# Altium footprint library goldpin.PcbLib: 6 footprints
Each footprint in its own frame and in the unit in brackets; x right, y up, seen from the top. Pads: shape width x height; smd on the part's side, far side on the other; paste and mask are expansions set on the pad; w line width, h text height; cw(c..) or ccw(c..) is an arc to the next point about the centre after c.
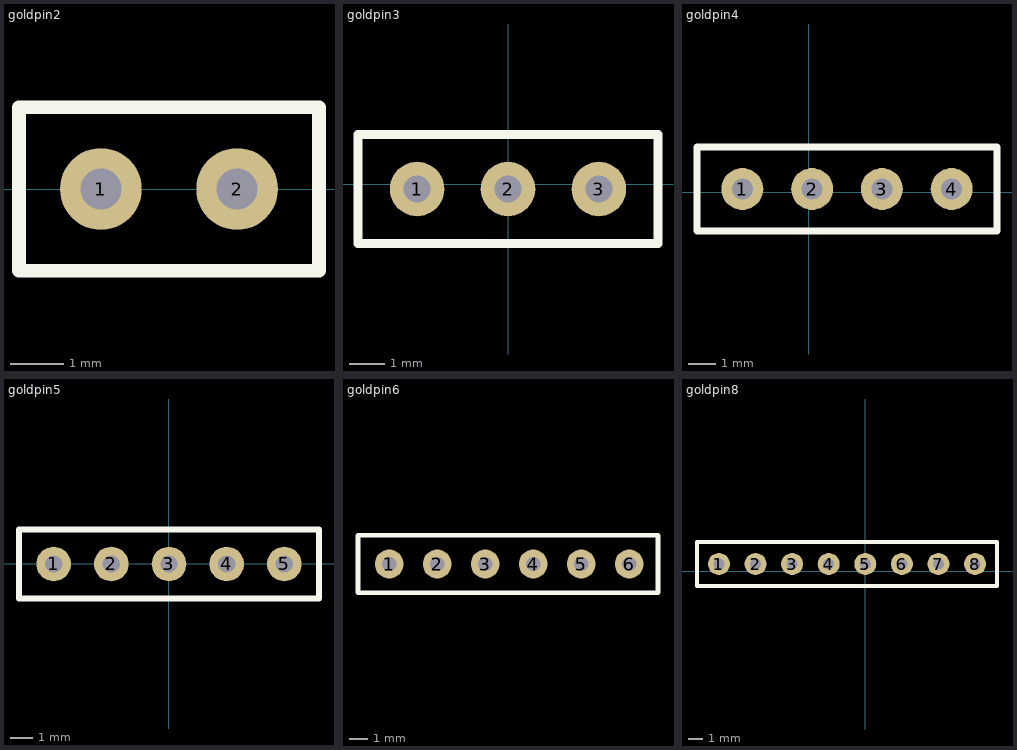
[diagram p0: the footprints below, top view; thin cyan lines are the x and y axes]

## goldpin2 [mil]
pads (2):
  round 60 hole 30: 1(-200,0) 2(-100,0)
Top Overlay:
  lines w10: -260,-60 -40,-60 -40,60 -260,60 -260,-60

## goldpin3 [mil]
pads (3):
  round 60 hole 30: 1(-100,-5) 2(0,-5) 3(100,-5)
Top Overlay:
  lines w10: -165,-65 165,-65 165,55 -165,55 -165,-65

## goldpin4 [mil]
pads (4):
  round 60 hole 30: 1(-95,5) 2(5,5) 3(105,5) 4(205,5)
Top Overlay:
  lines w10: -160,-55 -160,65 270,65 270,-55 -160,-55

## goldpin5 [mil]
pads (5):
  round 60 hole 30: 1(-200,0) 2(-100,0) 3(0,0) 4(100,0) 5(200,0)
Top Overlay:
  lines w10: -260,-60 260,-60 260,-30 260,30 260,60 -260,60 -260,-60

## goldpin6 [mil]
pads (6):
  round 60 hole 30: 1(-16000,6400) 2(-15900,6400) 3(-15800,6400) 4(-15700,6400) 5(-15600,6400) 6(-15500,6400)
Top Overlay:
  lines w10: -16065,6340 -16065,6460 -15540,6460 -15440,6460 -15440,6340 -15540,6340 -16065,6340

## goldpin8 [mil]
pads (8):
  round 60 hole 30: 1(-400,20) 2(-300,20) 3(-200,20) 4(-100,20) 5(0,20) 6(100,20) 7(200,20) 8(300,20)
Top Overlay:
  lines w10: -460,-40 360,-40 360,80 -460,80 -460,-40